# EAGLE library part IR2E53Y7 (library sharp)
Auto-brightness control with ambient light sensor 18 sets of 6 LEDs in series. Source: http://document.sharpsma.com/files/IR2E53Y7.pdf
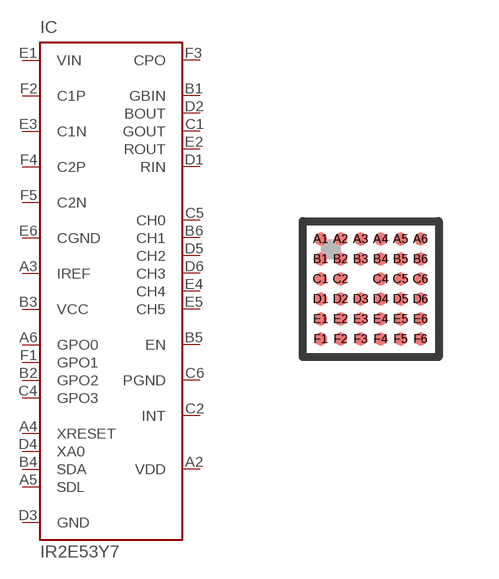
[diagram p2: symbol with the pads of WLP035-X-3636; footprint WLP035-X-3636]

Designator prefix IC

## IR2E53Y7 (OC_FARNELL: unknown; OC_NEWARK: unknown)  [WLP035-X-3636]
A2  VDD  pwr
A3  IREF  in
A4  XRESET  in
A5  SDL  in
A6  GPO0  in
B1  GBIN  in
B2  GPO2  in
B3  VCC  pwr
B4  SDA  in
B5  EN  in
B6  CH1  out
C1  GOUT  out
C2  INT  pas
C4  GPO3  in
C5  CH0  out
C6  PGND  pas
D1  RIN  out
D2  BOUT  out
D3  GND  pwr
D4  XA0  in
D5  CH2  out
D6  CH3  out
E1  VIN  in
E2  ROUT  out
E3  C1N  pas
E4  CH4  out
E5  CH5  out
E6  CGND  pwr
F1  GPO1  in
F2  C1P  pas
F3  CPO  pas
F4  C2P  pas
F5  C2N  pas

## Footprint WLP035-X-3636 (pad centres in mm)
Ball Grid Array WLP035-X-3636 35-pin WL-CSP package (3.57 x 3.57mm) Source: http://document.sharpsma.com/files/IR2E53Y7.pdf
smd 0.33 x 0.33: A1 -1.25,1.25; A2 -0.75,1.25; A3 -0.25,1.25; A4 0.25,1.25; A5 0.75,1.25; A6 1.25,1.25; B1 -1.25,0.75; B2 -0.75,0.75; B3 -0.25,0.75; B4 0.25,0.75; B5 0.75,0.75; B6 1.25,0.75; C1 -1.25,0.25; C2 -0.75,0.25; C4 0.25,0.25; C5 0.75,0.25; C6 1.25,0.25; D1 -1.25,-0.25; D2 -0.75,-0.25; D3 -0.25,-0.25; D4 0.25,-0.25; D5 0.75,-0.25; D6 1.25,-0.25; E1 -1.25,-0.75; E2 -0.75,-0.75; E3 -0.25,-0.75; E4 0.25,-0.75; E5 0.75,-0.75; E6 1.25,-0.75; F1 -1.25,-1.25; F2 -0.75,-1.25; F3 -0.25,-1.25; F4 0.25,-1.25; F5 0.75,-1.25; F6 1.25,-1.25